# Altium schematic symbol library APTD2012LSYCK.SchLib: 1 symbol
Pins are listed as number, name and electrical type; pins without a type are passive.

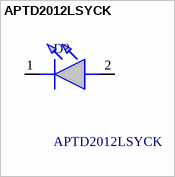
[diagram p0: symbol APTD2012LSYCK]

## APTD2012LSYCK
designator D?
Standard LEDs - SMD 0805 Dome Lens LED Yellow- 590nm; Manufacturer_Name: Kingbright; Geometry.Height: 1.05mm; Mouser Part Number: 604-APTD2012LSYCK; Mouser Price/Stock: https://www.mouser.co.uk/ProductDetail/Kingbright/APTD2012LSYCK?qs=AQlKX63v8Rs%252BoJzWpwxJ3A%3D%3D; Manufacturer_Part_Number: APTD2012LSYCK; Datasheet Link: http://www.kingbrightusa.com/images/catalog/SPEC/APTD2012LSYCK.pdf
footprint LEDC2012X105N
pins: 1 K, 2 A